# Altium footprint library HARWIN_M50-3600342.PcbLib: 1 footprints
Each footprint in its own frame and in the unit in brackets; x right, y up, seen from the top. Pads: shape width x height; smd on the part's side, far side on the other; paste and mask are expansions set on the pad; w line width, h text height; cw(c..) or ccw(c..) is an arc to the next point about the centre after c.
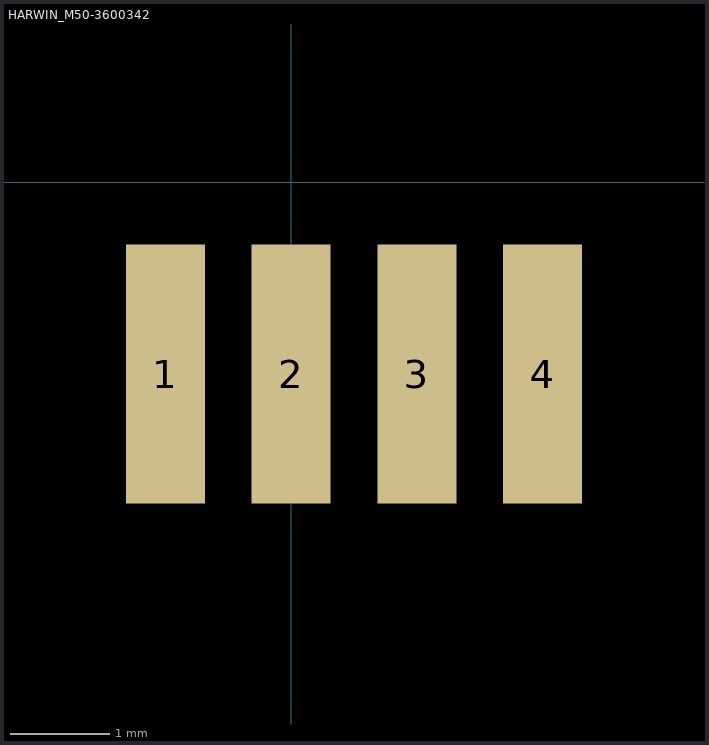
[diagram p0: the footprint, top view; thin cyan lines are the x and y axes]

## HARWIN_M50-3600342 [mm]
pads (4):
  rect 0.8x2.62 smd: 1(-1.27,-1.94) 2(0,-1.94) 3(1.27,-1.94) 4(2.54,-1.94)